# EAGLE library part M08 (library TSOC_USBUART2)
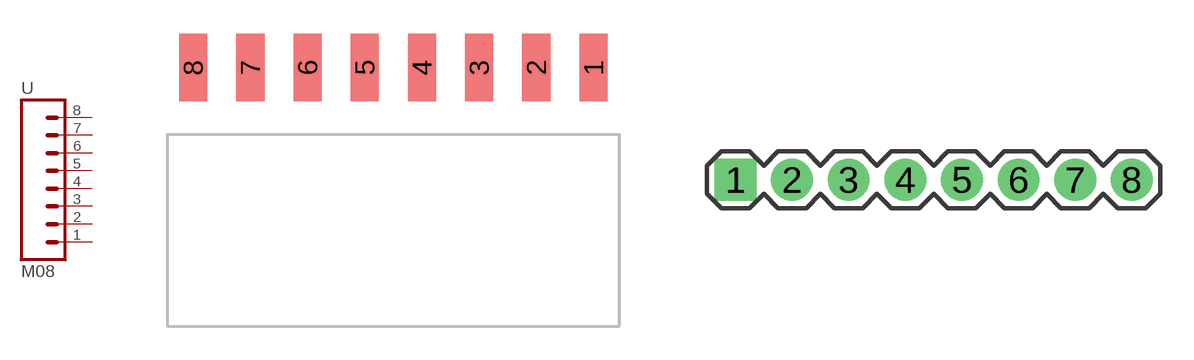
[diagram p0: symbol with the pads of 1X08-SMD-FEMALE; footprints 1X08-SMD-FEMALE, 1X08]

Designator prefix -

## M08  [1X08-SMD-FEMALE]
1  1  pas
2  2  pas
3  3  pas
4  4  pas
5  5  pas
6  6  pas
7  7  pas
8  8  pas

## M08PTH  [1X08]
Pads as for 1X08-SMD-FEMALE

## Footprint 1X08-SMD-FEMALE (pad centres in mm)
Package for 4UCONN part #19686 Used on FTDI breakouts
smd 1.25 x 3: 1 8.89,3.425; 2 6.35,3.425; 3 3.81,3.425; 4 1.27,3.425; 5 -1.27,3.425; 6 -3.81,3.425; 7 -6.35,3.425; 8 -8.89,3.425

## Footprint 1X08 (pad centres in mm)
drill 1.016 pad 1.88 square: 1 0,0
drill 1.016 pad 1.88: 2 2.54,0; 3 5.08,0; 4 7.62,0; 5 10.16,0; 6 12.7,0; 7 15.24,0; 8 17.78,0